# Altium schematic symbol library SCHOTTKY-DIODEF126Z12.Schlib: 1 symbol
Pins are listed as number, name and electrical type; pins without a type are passive.

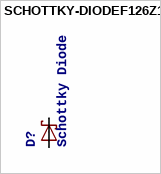
[diagram p0: symbol SCHOTTKY-DIODEF126Z12]

## SCHOTTKY-DIODEF126Z12
designator D?, comment Schottky Diode
SPICEMODEL: NONE; SPICEPREFIX: D; SPICETYPE: diode
footprint DIODE_F126Z12
pins: A C, C A